# Altium footprint library VQFN.PcbLib: 1 footprints
Each footprint in its own frame and in the unit in brackets; x right, y up, seen from the top. Pads: shape width x height; smd on the part's side, far side on the other; paste and mask are expansions set on the pad; w line width, h text height; cw(c..) or ccw(c..) is an arc to the next point about the centre after c.
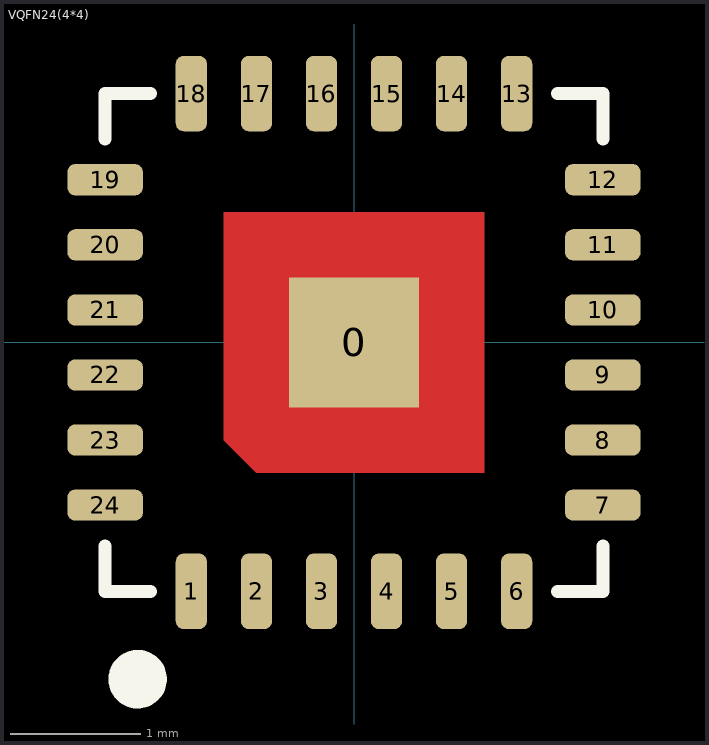
[diagram p0: the footprint, top view; thin cyan lines are the x and y axes]

## VQFN24(4*4) [mm]
pads (25):
  rect 1x1 smd: 0(0,0)
  rrect50% 0.24x0.58 smd: 1(-1.25,-1.913) 2(-0.75,-1.913) 3(-0.25,-1.913) 4(0.25,-1.913) 5(0.75,-1.913) 6(1.25,-1.913) 13(1.25,1.913) 14(0.75,1.913) 15(0.25,1.913) 16(-0.25,1.913) 17(-0.75,1.913) 18(-1.25,1.913)
  rrect50% 0.58x0.24 smd: 7(1.913,-1.25) 8(1.913,-0.75) 9(1.913,-0.25) 10(1.913,0.25) 11(1.913,0.75) 12(1.913,1.25) 19(-1.913,1.25) 20(-1.913,0.75) 21(-1.913,0.25) 22(-1.913,-0.25) 23(-1.913,-0.75) 24(-1.913,-1.25)
Top Layer:
  region: -1,1 1,1 1,-1 -0.75,-1 -1,-0.75
Top Overlay:
  circle w0.25: c-1.662,-2.588 r0.1
  lines w0.1: -1.913,-1.563 -1.913,-1.913 -1.563,-1.913 ; -1.913,1.563 -1.913,1.913 -1.563,1.913 ; 1.563,-1.913 1.913,-1.913 1.913,-1.563 ; 1.563,1.913 1.913,1.913 1.913,1.563
Top Solder:
  region: -1,1 1,1 1,-1 -0.75,-1 -1,-0.75
3D body "QFN24-4X4.STEP": height 0.95, standoff -0.05, extent -2.01,-2.01 2.01,2.01